# EAGLE library part ADG758BCPZ-REEL7 (library ADG758BCPZ-REEL7)
Analog Multiplexer Single 8:1 20-Pin LFCSP EP T/R Source: Datasheet <https://www.mouser.in/datasheet/2/609/ADG758_759-1502992.pdf>
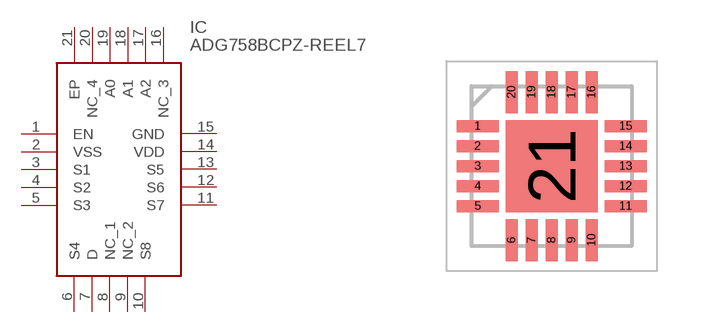
[diagram p0: symbol with the pads of QFN50P400X400X80-21N; footprint QFN50P400X400X80-21N]

Designator prefix IC

## ADG758BCPZ-REEL7 (Description: Analog Multiplexer Single 8:1 20-Pin LFCSP EP T/R; Height: 0.8mm; Manufacturer_Name: Analog Devices; Manufacturer_Part_Number: ADG758BCPZ-REEL7; Mouser_Part_Number: 584-ADG758BCPZ-R7; Mouser_Price-Stock: https://www.mouser.co.uk/ProductDetail/Analog-Devices/ADG758BCPZ-REEL7?qs=BpaRKvA4VqHkaBuI1D%252BNjw%3D%3D)  [QFN50P400X400X80-21N]
1  EN
2  VSS
3  S1
4  S2
5  S3
6  S4
7  D
8  NC_1
9  NC_2
10  S8
11  S7
12  S6
13  S5
14  VDD
15  GND
16  NC_3
17  A2
18  A1
19  A0
20  NC_4
21  EP

## Footprint QFN50P400X400X80-21N (pad centres in mm)
(CP-20-6)
smd 1.05 x 0.3: 1 -1.85,1; 2 -1.85,0.5; 3 -1.85,0; 4 -1.85,-0.5; 5 -1.85,-1; 11 1.85,-1; 12 1.85,-0.5; 13 1.85,0; 14 1.85,0.5; 15 1.85,1
smd 0.3 x 1.05: 6 -1,-1.85; 7 -0.5,-1.85; 8 0,-1.85; 9 0.5,-1.85; 10 1,-1.85; 16 1,1.85; 17 0.5,1.85; 18 0,1.85; 19 -0.5,1.85; 20 -1,1.85
smd 2.3 x 2.3: 21 0,0